# Altium schematic symbol library pth-battery.SchLib: 2 symbols
Pins are listed as number, name and electrical type; pins without a type are passive.

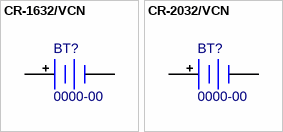
[diagram p0: symbols CR-1632/VCN to CR-2032/VCN]

## CR-1632/VCN
designator BT?, comment 0000-00
PTH 16mm SMD Battery Vertical; Value: CR-1632/VCN; MF: Panasonic; PN: 0000-00; ExtraInfo: *; Package: *; Class: Battery; MF PN: CR-1632/VCN
footprint CR-1632/VCN (PTH Battery 16mm Vertical)
pins: 1 +, 2 -

## CR-2032/VCN
designator BT?, comment 0000-00
PTH CR2032 SMD Battery Vertical; Value: CR-2032/VCN; MF: Panasonic; PN: 0000-00; ExtraInfo: *; Package: *; Class: Battery; MF PN: CR-2032/VCN
footprint CR-2032/VCN (PTH Battery 20mm Vertical)
pins: 1 +, 2 -